# EAGLE library part EPCQ16A (library Display_Custom)
Altera Serial Config Flash EPCQ16A - SOIC8
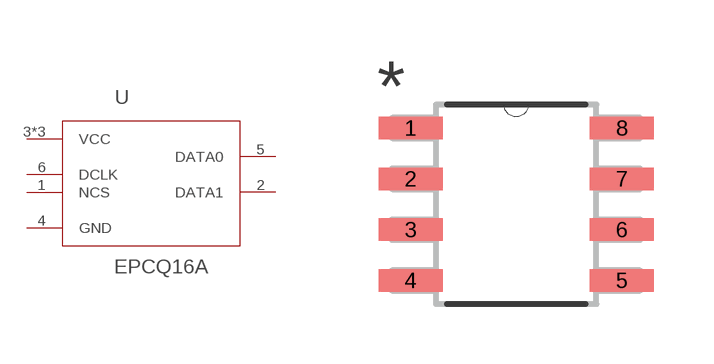
[diagram p1: symbol with the pads of SOIC127P600X175-8N; footprint SOIC127P600X175-8N]

Designator prefix -

## EPCQ16A  [SOIC127P600X175-8N]
1  NCS  in
2  DATA1  out
3  VCC  pwr
4  GND  pas
5  DATA0  out
6  DCLK  in
7  VCC  pwr
8  VCC  pwr

## Footprint SOIC127P600X175-8N (pad centres in mm)
SOIC8
smd 1.6 x 0.559: 1 -2.642,1.905; 2 -2.642,0.635; 3 -2.642,-0.635; 4 -2.642,-1.905; 5 2.642,-1.905; 6 2.642,-0.635; 7 2.642,0.635; 8 2.642,1.905